# Altium footprint library 3pin-molex.PcbLib: 1 footprints
Each footprint in its own frame and in the unit in brackets; x right, y up, seen from the top. Pads: shape width x height; smd on the part's side, far side on the other; paste and mask are expansions set on the pad; w line width, h text height; cw(c..) or ccw(c..) is an arc to the next point about the centre after c.
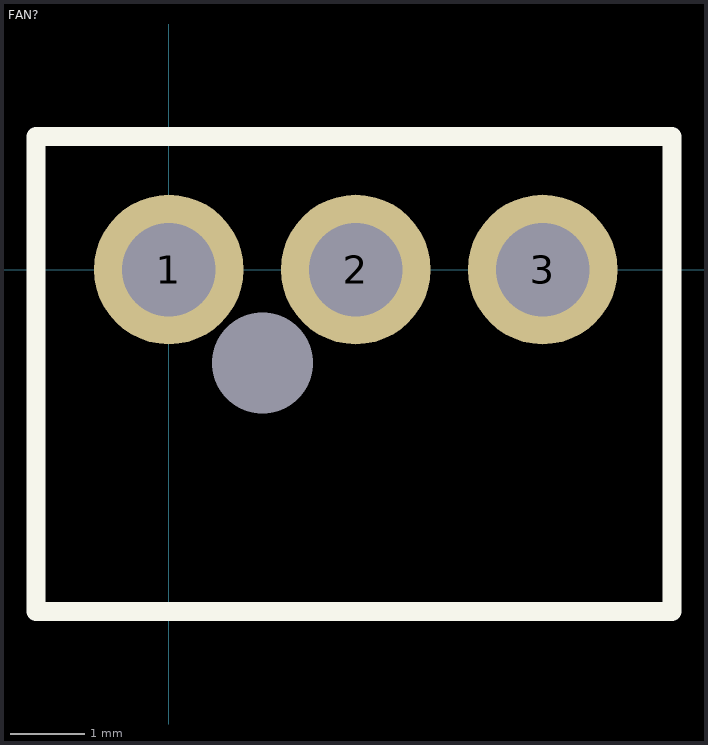
[diagram p0: the footprint, top view; thin cyan lines are the x and y axes]

## FAN? [mm] "3pin molex nanonfit"
pads (4):
  round 2 hole 1.25: 1(0,0) 2(2.5,0) 3(5,0)
  round 0 hole 1.35: ""(1.25,-1.25)
Top Overlay:
  lines w0.254: -1.778,-4.572 6.731,-4.572 6.731,1.778 -1.778,1.778 -1.778,-4.572
3D body "1053091103.stp": height 10.38, standoff -3.33, extent -1.72,-4.6 6.72,1.74